# EAGLE library part MCP41100 (library EricB_custom)
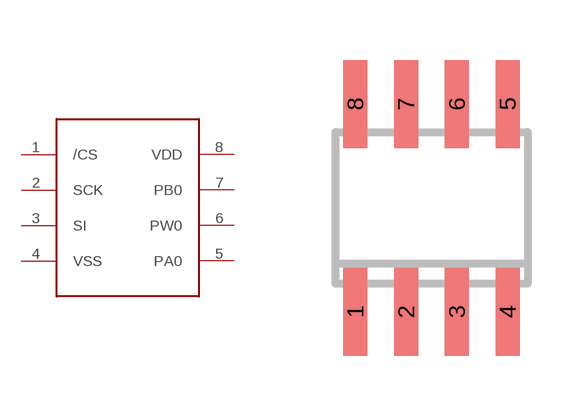
[diagram p15: symbol with the pads of SO8; footprint SO8]

Designator prefix -

## MCP41100  [SO8]
1  /CS
2  SCK
3  SI
4  VSS
5  PA0
6  PW0
7  PB0
8  VDD

## Footprint SO8 (pad centres in mm)
8-Lead Small Outline IC (SO-8) Source: http://www.analog.com/UploadedFiles/Data_Sheets/703465986AD8611_2_0.pdf
smd 0.6 x 2.2: 1 -1.905,-2.6; 2 -0.635,-2.6; 3 0.635,-2.6; 4 1.905,-2.6; 5 1.905,2.6; 6 0.635,2.6; 7 -0.635,2.6; 8 -1.905,2.6